# Altium footprint library Header_40P_1.PcbLib: 1 footprints
Each footprint in its own frame and in the unit in brackets; x right, y up, seen from the top. Pads: shape width x height; smd on the part's side, far side on the other; paste and mask are expansions set on the pad; w line width, h text height; cw(c..) or ccw(c..) is an arc to the next point about the centre after c.
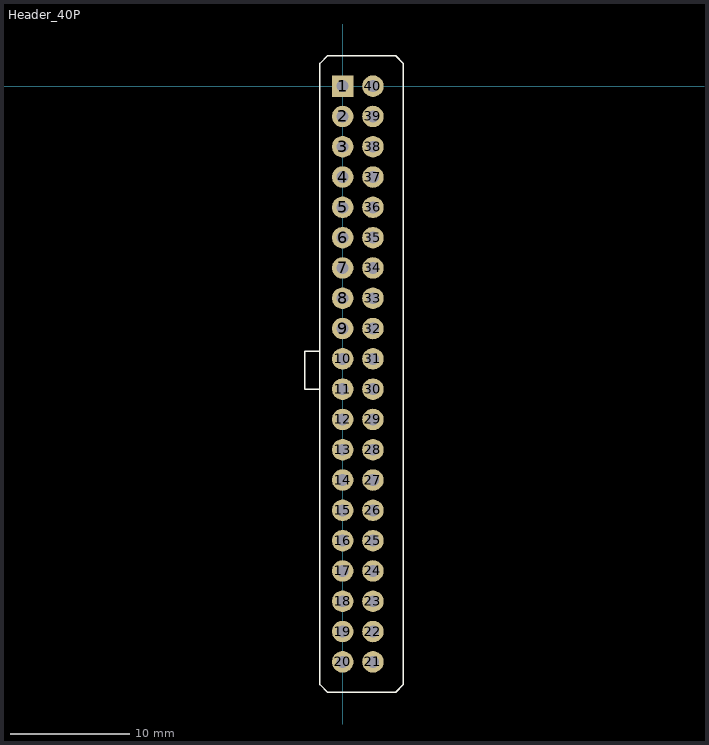
[diagram p0: the footprint, top view; thin cyan lines are the x and y axes]

## Header_40P [mm]
pads (40):
  rect 1.8x1.8 hole 1: 1(0,0)
  round 1.8 hole 1: 2(0,-2.54) 3(0,-5.08) 4(0,-7.62) 5(0,-10.16) 6(0,-12.7) 7(0,-15.24) 8(0,-17.78) 9(0,-20.32) 10(0,-22.86) 11(0,-25.4) 12(0,-27.94) 13(0,-30.48) 14(0,-33.02) 15(0,-35.56) 16(0,-38.1) 17(0,-40.64) 18(0,-43.18) 19(0,-45.72) 20(0,-48.26) 21(2.54,-48.26) 22(2.54,-45.72) 23(2.54,-43.18) 24(2.54,-40.64) 25(2.54,-38.1) 26(2.54,-35.56) 27(2.54,-33.02) 28(2.54,-30.48) 29(2.54,-27.94) 30(2.54,-25.4) 31(2.54,-22.86) 32(2.54,-20.32) 33(2.54,-17.78) 34(2.54,-15.24) 35(2.54,-12.7) 36(2.54,-10.16) 37(2.54,-7.62) 38(2.54,-5.08) 39(2.54,-2.54) 40(2.54,0)
Top Overlay:
  lines w0.127: -1.905,-25.4 -3.175,-25.4 -3.175,-22.225 -1.905,-22.225 ; -1.905,-50.165 -1.27,-50.8 4.445,-50.8 5.08,-50.165 5.08,1.905 4.445,2.54 -1.27,2.54 -1.905,1.905 -1.905,-50.165